# Altium footprint library CON_DIVERSOS.PcbLib: 3 footprints
Each footprint in its own frame and in the unit in brackets; x right, y up, seen from the top. Pads: shape width x height; smd on the part's side, far side on the other; paste and mask are expansions set on the pad; w line width, h text height; cw(c..) or ccw(c..) is an arc to the next point about the centre after c.
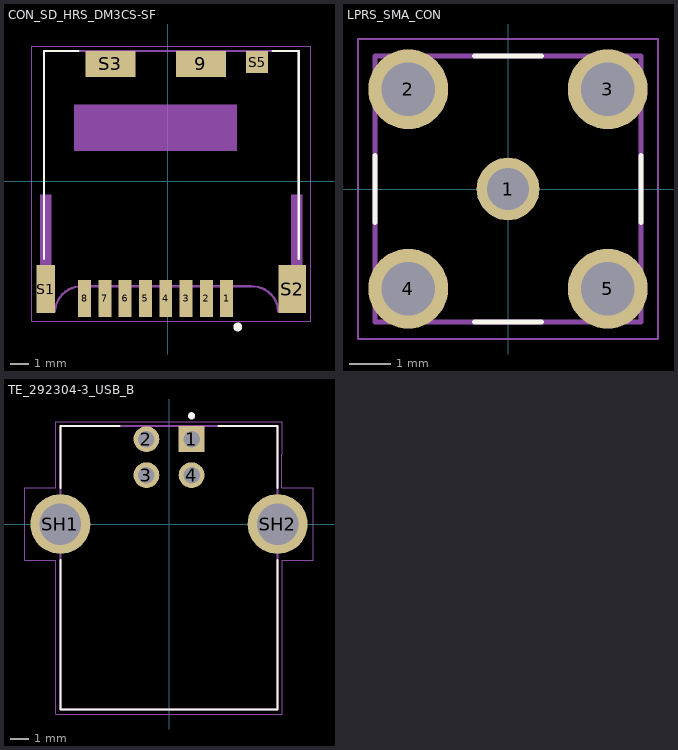
[diagram p0: the footprints below, top view; thin cyan lines are the x and y axes]

## CON_SD_HRS_DM3CS-SF [mm] "CON SD CARD SMD"
pads (13):
  rect 0.7x2 smd: 1(3.2,-6.35) 2(2.1,-6.35) 3(1,-6.35) 4(-0.1,-6.35) 5(-1.2,-6.35) 6(-2.3,-6.35) 7(-3.4,-6.35) 8(-4.5,-6.35)
  rect 2.7x1.4 smd: 9(1.8,6.35) S3(-3.1,6.35)
  rect 1x2.6 smd: S1(-6.6,-5.85)
  rect 1.5x2.6 smd: S2(6.75,-5.85)
  rect 1.2x1.2 smd: S5(4.85,6.45)
Top Overlay:
  circle w0.24: c3.8,-7.9 r0.12
  lines w0.127: -6.7,-4.2 -6.7,7.05 -4.826,7.05 ; 5.7,7.05 7.1,7.05 7.1,-4.2
Mechanical 4:
  region: -5.051,4.15 3.75,4.15 3.75,1.65 -5.051,1.65
  region: -5.053,4.15 3.75,4.15 3.75,1.651 -5.053,1.651
  region: -6.912,-0.75 -6.3,-0.75 -6.3,-4.558 -6.912,-4.558
  region: 6.709,-0.75 7.3,-0.75 7.3,-4.556 6.709,-4.556
  region: -6.912,-0.75 -6.3,-0.75 -6.3,-4.558 -6.912,-4.558
  region: 6.712,-0.75 7.3,-0.75 7.3,-4.558 6.712,-4.558
  region: -5.051,4.15 3.75,4.15 3.75,1.65 -5.051,1.65
  region: -5.053,4.15 3.75,4.15 3.75,1.651 -5.053,1.651
  region: -6.912,-0.75 -6.3,-0.75 -6.3,-4.558 -6.912,-4.558
  region: 6.709,-0.75 7.3,-0.75 7.3,-4.556 6.709,-4.556
  region: -6.912,-0.75 -6.3,-0.75 -6.3,-4.558 -6.912,-4.558
  region: 6.712,-0.75 7.3,-0.75 7.3,-4.558 6.712,-4.558
  lines w0.127: -6.7,-7.05 -6.1,-7.05 ; -6.7,-7.05 -6.7,7.05 ; -6.7,-7.05 -6.1,-7.05 ; -6.7,-7.05 -6.7,7.05 ; -6.7,7.05 7.1,7.05 ; -6.7,7.05 7.1,7.05 ; -6.1,-7.05 cw(c-4.675,-7.125) -4.6,-5.7 ; -6.1,-7.05 cw(c-4.675,-7.125) -4.6,-5.7 ; -4.6,-5.7 4.5,-5.7 -4.6,-5.7 ; 6,-7.05 ccw(c4.575,-7.125) 4.5,-5.7 cw(c4.575,-7.125) 6,-7.05 ; 6,-7.05 7.1,-7.05 ; 6,-7.05 7.1,-7.05 ; 7.1,-7.05 7.1,7.05 ; 7.1,-7.05 7.1,7.05
Mechanical 16:
  lines w0.05: -7.35,-7.6 -7.35,7.3 7.75,7.3 7.75,-7.6 -7.35,-7.6
3D body "User Library-DM3CS-SF.STEP": height 1.98, standoff 0.05, extent -6.675,-6.9 7.125,7.2

## LPRS_SMA_CON [mm]
pads (5):
  round 1.508 hole 1: 1(0,0)
  round 1.92 hole 1.28: 2(-2.4,2.4) 3(2.4,2.4) 4(-2.4,-2.4) 5(2.4,-2.4)
Top Overlay:
  lines w0.127: -3.2,-0.8 -3.2,0.8 ; -0.8,-3.2 0.8,-3.2 ; -0.8,3.2 0.8,3.2 ; 3.2,-0.8 3.2,0.8
Mechanical 4:
  lines w0.127: -3.2,-3.2 3.2,-3.2 ; -3.2,-3.2 -3.2,3.2 ; -3.2,-3.2 3.2,-3.2 ; -3.2,-3.2 -3.2,3.2 ; -3.2,3.2 3.2,3.2 ; -3.2,3.2 3.2,3.2 ; 3.2,-3.2 3.2,3.2 ; 3.2,-3.2 3.2,3.2
Mechanical 16:
  lines w0.05: -3.61,-3.61 -3.61,3.61 3.61,3.61 3.61,-3.61 -3.61,-3.61
3D body "sma_con.stp": height 9.5, standoff -4, extent -3.2,-3.2 3.2,3.2

## TE_292304-3_USB_B [mm] "CONECTOR USB TIPO B"
pads (6):
  rect 1.428x1.428 hole 0.92: 1(1.25,4.71)
  round 1.428 hole 0.92: 2(-1.25,4.71) 3(-1.25,2.71) 4(1.25,2.71)
  round 3.316 hole 2.3: SH1(-6.02,0) SH2(6.02,0)
Top Overlay:
  circle w0.2: c1.25,6 r0.1
  lines w0.127: -6.02,-2 -6.02,-10.28 6.02,-10.28 6.02,-2 ; -6.02,2 -6.02,5.43 ; -6,5.43 -2.75,5.43 ; 2.75,5.43 6.02,5.43 6.02,2
Mechanical 4:
  circle w0.2: c1.25,4.71 r0.1
  circle w0.2: c1.25,4.71 r0.1
  lines w0.127: -6.02,-10.28 -6.02,5.43 ; -6.02,-10.28 6.02,-10.28 ; -6.02,-10.28 -6.02,5.43 ; -6.02,-10.28 6.02,-10.28 ; -6.02,5.43 6.02,5.43 ; -6.02,5.43 6.02,5.43 ; 6.02,-10.28 6.02,5.43 ; 6.02,-10.28 6.02,5.43
Mechanical 16:
  lines w0.05: -8,-2 -6.27,-2 -6.27,-10.53 6.27,-10.53 6.27,-2 8,-2 8,2 6.25,2 6.27,5.68 -6.27,5.68 -6.27,2 -8,2 -8,-2
3D body "43751_usbb.stp": height 10.95, standoff -3.4, extent -7.475,-10.275 7.475,6.225